# Altium footprint library BAL-NRF01D3.PcbLib: 1 footprints
Each footprint in its own frame and in the unit in brackets; x right, y up, seen from the top. Pads: shape width x height; smd on the part's side, far side on the other; paste and mask are expansions set on the pad; w line width, h text height; cw(c..) or ccw(c..) is an arc to the next point about the centre after c.
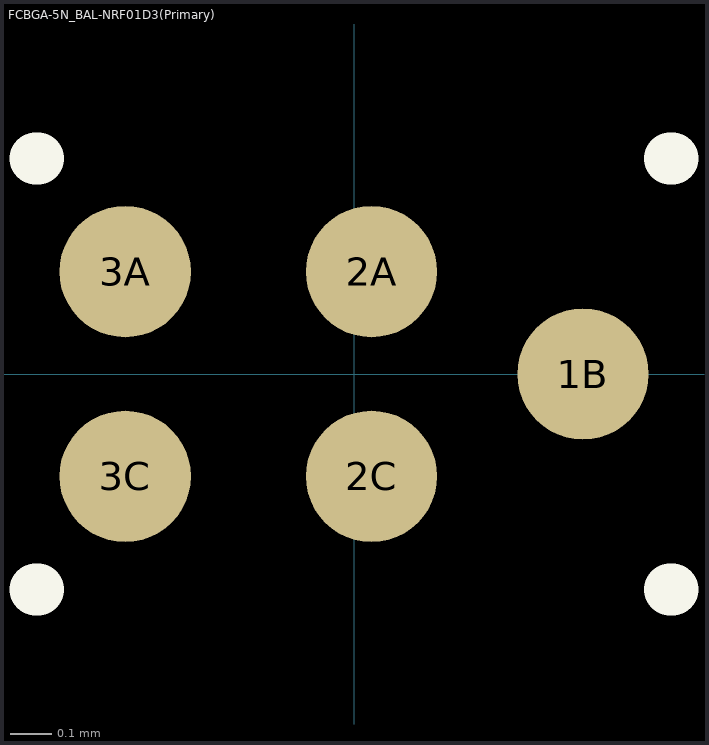
[diagram p0: the footprint, top view; thin cyan lines are the x and y axes]

## FCBGA-5N_BAL-NRF01D3(Primary) [mm]
pads (5):
  round 0.32 smd: 1B(0.558,0) 2A(0.043,0.249) 2C(0.043,-0.249) 3A(-0.557,0.249) 3C(-0.557,-0.249)
Top Overlay:
  lines w0.127: -0.775,-0.525 -0.77,-0.525 ; -0.775,0.525 -0.77,0.525 ; 0.77,-0.525 0.775,-0.525 ; 0.77,0.525 0.775,0.525